# Altium footprint library 二极管.PcbLib: 21 footprints (part 1 of 2)
Each footprint in its own frame and in the unit in brackets; x right, y up, seen from the top. Pads: shape width x height; smd on the part's side, far side on the other; paste and mask are expansions set on the pad; w line width, h text height; cw(c..) or ccw(c..) is an arc to the next point about the centre after c.
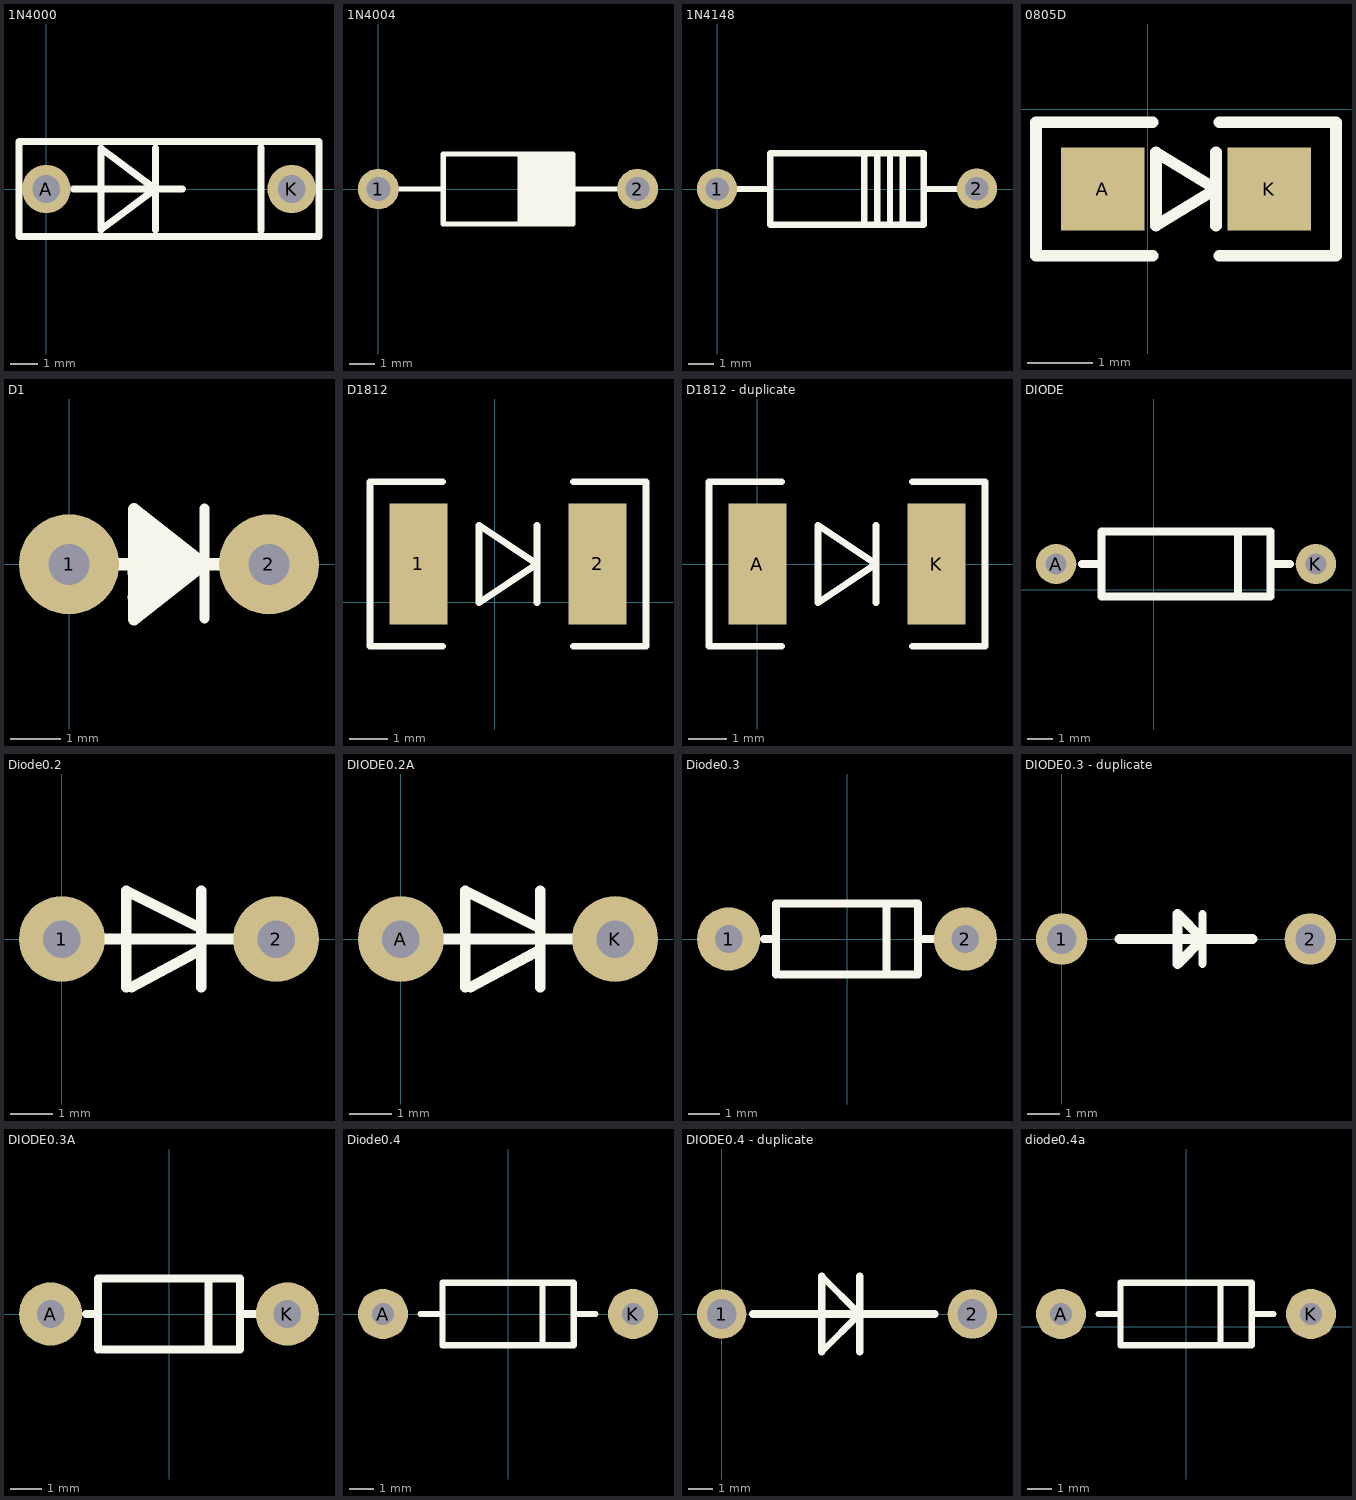
[diagram p0: the footprints below, top view; thin cyan lines are the x and y axes]

## 1N4000 [mil]
pads (2):
  round 70 hole 40: A(0,0) K(354.33,0)
Top Overlay:
  lines w10: 39.37,0 196.85,0 ; 157.48,-59.05 157.48,59.05 ; 310,-60 310,60 ; -39.37,-68.74 393.7,-68.74 393.7,68.74 -39.37,68.74 -39.37,-68.74 ; 78.74,-59.05 78.74,59.05 157.48,0 78.74,-59.05

## 1N4004 [mil]
pads (2):
  round 62 hole 36: 1(0,0) 2(393.7,0)
Top Overlay:
  lines w5.91: 214.57,-53.15 214.57,53.15 ; 218.5,-53.15 218.5,53.15 ; 222.44,-53.15 222.44,53.15 ; 226.38,-53.15 226.38,53.15 ; 230.31,-53.15 230.31,53.15 ; 234.25,-53.15 234.25,53.15 ; 238.19,-53.15 238.19,53.15 ; 242.13,-53.15 242.13,53.15 ; 246.06,-53.15 246.06,53.15 ; 250,-53.15 250,53.15 ; 253.94,-53.15 253.94,53.15 ; 257.87,-53.15 257.87,53.15 ; 261.81,-53.15 261.81,53.15 ; 265.75,-53.15 265.75,53.15 ; 269.69,-53.15 269.69,53.15 ; 273.62,-53.15 273.62,53.15 ; 277.56,-53.15 277.56,53.15 ; 281.5,-53.15 281.5,53.15 ; 285.43,-53.15 285.43,53.15 ; 289.37,-53.15 289.37,53.15 ; 293.31,-53.15 293.31,53.15
  lines w7.87: 23.62,0 98.42,0 ; 295.28,0 370.08,0 ; 98.42,-53.15 295.28,-53.15 295.28,53.15 98.42,53.15 98.42,-53.15

## 1N4148 [mil]
pads (2):
  round 62 hole 36: 1(0,0) 2(400,0.5)
Top Overlay:
  lines w9.84: 3.15,0 81.89,0 ; 226.77,-55.12 226.77,55.12 ; 246.46,-55.12 246.46,55.12 ; 266.14,-55.12 266.14,55.12 ; 285.83,-55.12 285.83,55.12 ; 396.85,0 318.11,0 ; 318.11,0 318.11,-55.12 81.89,-55.12 81.89,55.12 318.11,55.12 318.11,0

## 0805D [mil]
pads (2):
  rect 50x50 smd: A(-27,-48) K(73,-48)
Top Overlay:
  lines w7: 3,-88 -67,-88 -67,-8 3,-8 ; 41,-70 41,-48 ; 41,-26 41,-48 ; 43,-88 113,-88 113,-8 43,-8 ; 41,-48 5,-70 5,-48 5,-26 41,-48

## D1 [mm]
pads (2):
  round 2 hole 0.82: 1(0,0) 2(4,0)
Top Overlay:
  lines w0.2: 2.709,-1.09 2.709,1.11
  lines w0.25: 0.4,0 1.3,0 ; 3.61,0 2.7,0 ; 2.7,0 1.3,-1.1 1.3,1.1 2.7,0
  lines w0.254: 1.638,0.305 1.511,0.305 1.612,0.203 2.273,0.203 2.298,0.229 2.12,0.229 2.095,0.203 1.511,0.787 1.511,0.508 ; 1.866,0.203 1.562,0.508 1.511,0.508 ; 2.425,0 1.3,0 1.3,-0.178 1.351,-0.229 2.374,-0.229 2.247,-0.229 1.993,-0.483 1.478,-0.483 ; 1.478,-0.483 1.511,-0.45 1.511,0.508 ; 1.478,-0.483 1.478,-0.711 1.325,-0.864 1.511,-0.864 1.714,-0.66 1.3,-0.66 1.478,-0.483

## D1812 [mm]
pads (2):
  rect 1.524x3.175 smd: 1(-2,1) 2(2.699,1)
Top Overlay:
  lines w0.178: -1.365,-1.159 -3.27,-1.159 -3.27,3.159 -1.365,3.159 ; 1.111,-0.016 1.111,2.016 ; 2.064,-1.159 3.969,-1.159 3.969,3.159 2.064,3.159 ; -0.413,-0.016 1.111,1 -0.413,2.016 -0.413,-0.016

## D1812 - duplicate [mil]
pads (2):
  rect 60x125 smd: A(0,0) K(185,0)
Top Overlay:
  lines w7: 25,-85 -50,-85 -50,85 25,85 ; 122.5,-40 122.5,40 ; 160,-85 235,-85 235,85 160,85 ; 62.5,-40 122.5,0 62.5,40 62.5,-40

## DIODE [mil]
pads (2):
  round 62 hole 32: A(-150.02,39.98) K(249.98,39.98)
Top Overlay:
  lines w12: -110.02,39.98 -80.02,39.98 ; 129.98,-10.02 129.98,89.98 ; 179.98,39.98 209.98,39.98 ; -80.02,-10.02 -80.02,89.98 179.98,89.98 179.98,-10.02 -80.02,-10.02

## Diode0.2 [mil]
pads (2):
  round 80 hole 35: 1(0,0) 2(200,0)
Top Overlay:
  lines w10: 35,0 160,0 ; 60,-45 60,45 130,10 ; 65,-45 130,-10 ; 130,-45 130,45

## DIODE0.2A [mil]
pads (2):
  round 80 hole 35: A(0,0) K(200,0)
Top Overlay:
  lines w10: 35,0 160,0 ; 60,-45 60,45 130,10 ; 65,-45 130,-10 ; 130,-45 130,45

## Diode0.3 [mil]
pads (2):
  round 80 hole 35: 1(-150,0) 2(150,0)
Top Overlay:
  lines w10: -105,0 -90,0 ; -90,-45 -90,45 90,45 90,-45 -85,-45 ; 50,-45 50,45 ; 90,0 110,0

## DIODE0.3 - duplicate [mil]
pads (2):
  round 62 hole 36: 1(0,0) 2(300,0)
Top Overlay:
  lines w10: 170,-30 170,30
  lines w12: 70,0 230,0 ; 140,-30 170,0 140,30 140,-30

## DIODE0.3A [mil]
pads (2):
  round 80 hole 35: A(-150,0) K(150,0)
Top Overlay:
  lines w10: -105,0 -90,0 ; -90,-45 -90,45 90,45 90,-45 -85,-45 ; 50,-45 50,45 ; 90,0 110,0

## Diode0.4 [mil]
pads (2):
  round 80 hole 35: A(-200,0) K(200,0)
Top Overlay:
  lines w10: -140,0 -105,0 ; 55,-50 55,50 ; 105,0 140,0 ; -105,-50 -105,-10 -105,50 105,50 105,-50 -105,-50

## DIODE0.4 - duplicate [mm]
pads (2):
  round 2 hole 1.2: 1(0,0) 2(10.16,0)
Top Overlay:
  lines w0.254: 4.064,-1.524 5.588,0 4.064,1.524
  lines w0.305: 1.27,0 8.636,0 ; 4.064,-1.524 4.064,1.524 ; 5.588,-1.524 5.588,1.524

## diode0.4a [mil]
pads (2):
  round 80 hole 35: A(-200,20) K(200,20)
Top Overlay:
  lines w10: -140,20 -105,20 ; 55,-30 55,70 ; 105,20 140,20 ; -105,-30 105,-30 105,70 -105,70 -105,10 -105,-30